# EAGLE library part RN52 (library Ai_RF)
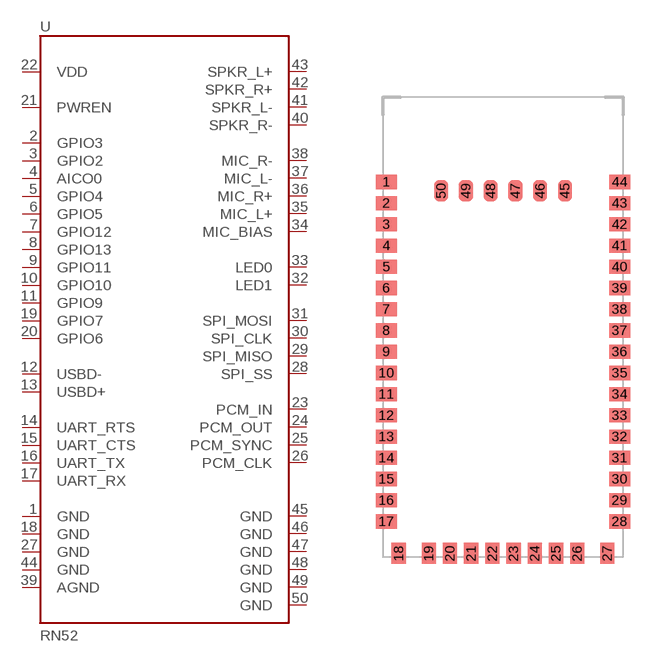
[diagram p0: symbol with the pads of RN52; footprint RN52]

Designator prefix -

## RN52  [RN52]
1  GND
2  GPIO3
3  GPIO2
4  AICO0
5  GPIO4
6  GPIO5
7  GPIO12
8  GPIO13
9  GPIO11
10  GPIO10
11  GPIO9
12  USBD-
13  USBD+
14  UART_RTS
15  UART_CTS
16  UART_TX
17  UART_RX
18  GND
19  GPIO7
20  GPIO6
21  PWREN
22  VDD
23  PCM_IN
24  PCM_OUT
25  PCM_SYNC
26  PCM_CLK
27  GND
28  SPI_SS
29  SPI_MISO
30  SPI_CLK
31  SPI_MOSI
32  LED1
33  LED0
34  MIC_BIAS
35  MIC_L+
36  MIC_R+
37  MIC_L-
38  MIC_R-
39  AGND
40  SPKR_R-
41  SPKR_L-
42  SPKR_R+
43  SPKR_L+
44  GND
45  GND
46  GND
47  GND
48  GND
49  GND
50  GND

## Footprint RN52 (pad centres in mm)
smd 1.2 x 0.8: 1 -6.6,9.53; 2 -6.6,8.33; 3 -6.6,7.13; 4 -6.6,5.93; 5 -6.6,4.73; 6 -6.6,3.53; 7 -6.6,2.33; 8 -6.6,1.13; 9 -6.6,-0.07; 10 -6.6,-1.27; 11 -6.6,-2.47; 12 -6.6,-3.67; 13 -6.6,-4.87; 14 -6.6,-6.07; 15 -6.6,-7.27; 16 -6.6,-8.47; 17 -6.6,-9.67; 28 6.6,-9.67; 29 6.6,-8.47; 30 6.6,-7.27; 31 6.6,-6.07; 32 6.6,-4.87; 33 6.6,-3.67; 34 6.6,-2.47; 35 6.6,-1.27; 36 6.6,-0.07; 37 6.6,1.13; 38 6.6,2.33; 39 6.6,3.53; 40 6.6,4.73; 41 6.6,5.93; 42 6.6,7.13; 43 6.6,8.33; 44 6.6,9.53
smd 0.8 x 1.2: 18 -5.9,-11.47; 19 -4.2,-11.47; 20 -3,-11.47; 21 -1.8,-11.47; 22 -0.6,-11.47; 23 0.6,-11.47; 24 1.8,-11.47; 25 3,-11.47; 26 4.2,-11.47; 27 5.9,-11.46; 45 3.5,9.03; 46 2.1,9.03; 47 0.7,9.03; 48 -0.7,9.03; 49 -2.1,9.03; 50 -3.5,9.03